# EAGLE library part L6384 (library steves)
High-voltage half bridge driver.
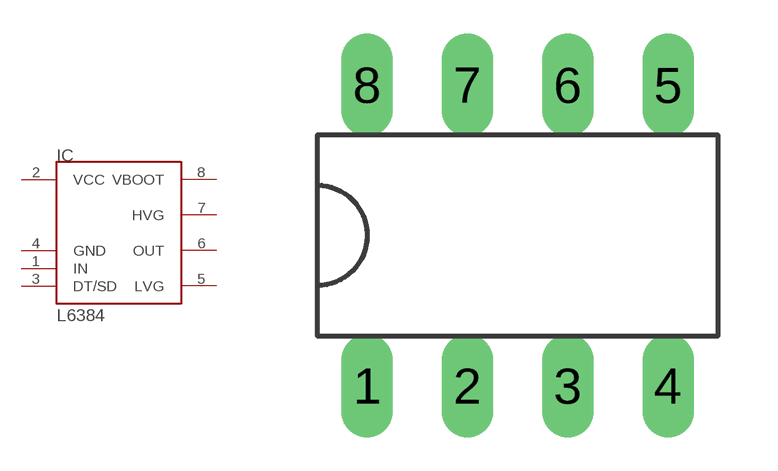
[diagram p11: symbol with the pads of DIL8; footprint DIL8]

Designator prefix IC

## L6384  [DIL8]
1  IN  in
2  VCC  pwr
3  DT/SD  in
4  GND  pwr
5  LVG  out
6  OUT  out
7  HVG  out
8  VBOOT  in

## Footprint DIL8 (pad centres in mm)
Standard 8-pin DIL pad, 0.3 spacing.
drill 0.8 long: 1 0,0; 2 2.54,0; 3 5.08,0; 4 7.62,0; 5 7.62,7.62; 6 5.08,7.62; 7 2.54,7.62; 8 0,7.62